# Altium footprint library Ctrl-FOC-Lite.PcbLib: 27 footprints (part 1 of 2)
Each footprint in its own frame and in the unit in brackets; x right, y up, seen from the top. Pads: shape width x height; smd on the part's side, far side on the other; paste and mask are expansions set on the pad; w line width, h text height; cw(c..) or ccw(c..) is an arc to the next point about the centre after c.
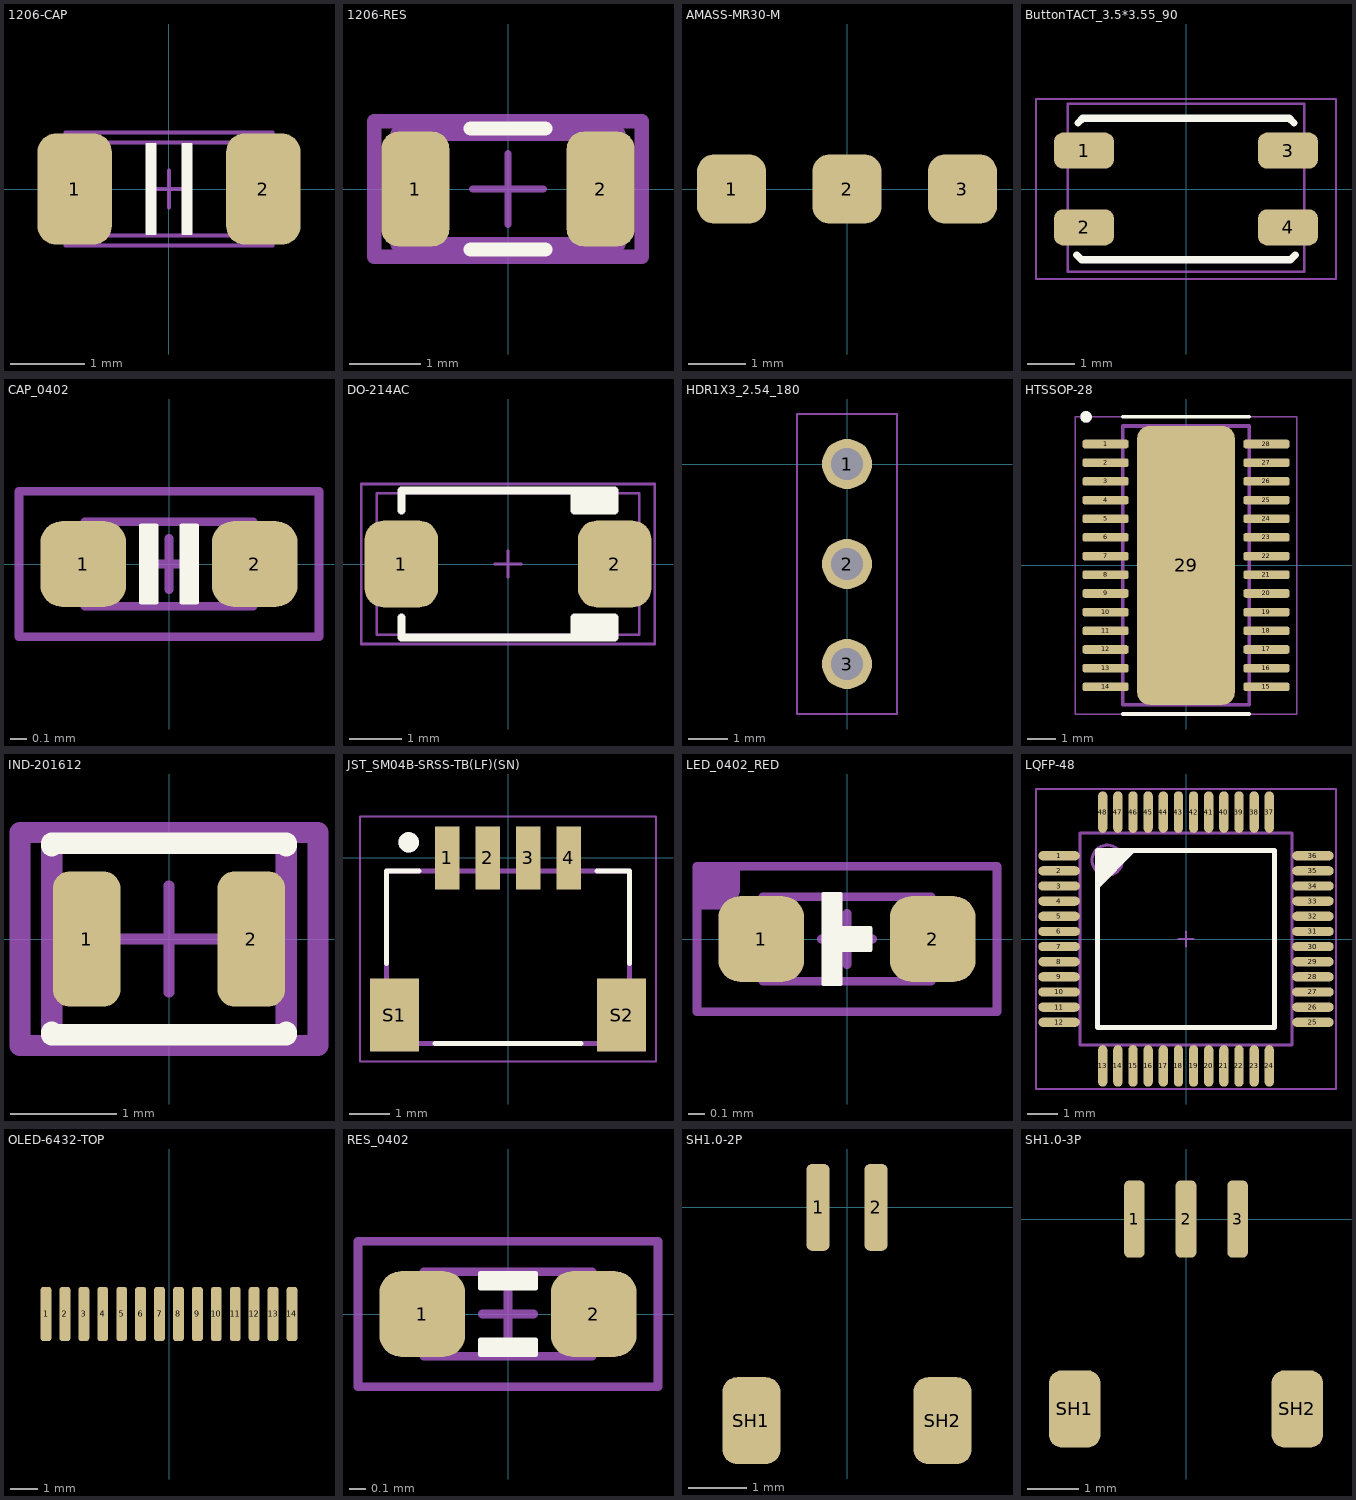
[diagram p0: the footprints below, top view; thin cyan lines are the x and y axes]

## 1206-CAP [mm]
height 1.2
pads (2):
  rrect50% 1x1.5 smd: 1(-1.27,0) 2(1.27,0)
Top Overlay:
  region: 0.305,-0.61 0.178,-0.61 0.178,0.61 0.305,0.61
  region: -0.305,0.61 -0.178,0.61 -0.178,-0.61 -0.305,-0.61
  lines w0.025: -0.305,-0.61 -0.305,0.61 -0.178,0.61 -0.178,-0.61 -0.305,-0.61 ; 0.178,-0.61 0.305,-0.61 0.305,0.61 0.178,0.61 0.178,-0.61
Mechanical 13:
  lines w0.051: -0.254,0 0.254,0 ; 0,-0.254 0,0.254 ; -1,-0.625 1,-0.625 1,0.625 -1,0.625 -1,-0.625
Mechanical 14:
  lines w0.051: -1.397,-0.762 1.397,-0.762 1.397,0.762 -1.397,0.762 -1.397,-0.762
3D body "(未保存).step": height 1.5, standoff 0, extent -1.5,-0.75 1.5,0.75

## 1206-RES [mm]
height 4.3
pads (2):
  rrect50% 0.956x1.61 smd paste+0 mask+0: 1(-1.301,0) 2(1.301,0)
Top Overlay:
  lines w0.2: -0.523,-0.85 0.523,-0.85 ; -0.523,0.85 0.523,0.85
Mechanical 10:
  lines w0.2: -1.879,-0.95 1.879,-0.95 1.879,0.95 -1.879,0.95 -1.879,-0.95
Mechanical 12:
  lines w0.2: -1.55,-0.775 1.55,-0.775 1.55,0.775 -1.55,0.775 -1.55,-0.775
Mechanical 15:
  lines w0.1: -0.5,0 0.5,0 ; 0,-0.5 0,0.5
  lines w0.2: -1.879,-0.95 1.879,-0.95 1.879,0.95 -1.879,0.95 -1.879,-0.95
3D body "Res_TE_CRGP1206F1K2_eec.step": height 0.65, standoff 0, extent -1.55,-0.775 1.55,0.775

## AMASS-MR30-M [mm]
pads (3):
  rrect50% 1.2x1.2 smd: 1(-2,0) 2(0,0) 3(2,0)

## ButtonTACT_3.5*3.55_90 [mil]
height 169.29
pads (4):
  rrect50% 50x30 smd: 1(-85,32) 2(-85,-32) 3(85,32) 4(85,-32)
Top Overlay:
  lines w6: -91,-55 -87,-59 87,-59 91,-55 ; -90,55 -85.98,59 86,59 90,55
Mechanical 13:
  lines w2: -98.43,-68.9 -98.43,71 98.43,71 98.43,-68.9 -98.43,-68.9
Mechanical 14:
  lines w2: -125,-75 -125,75 125,75 125,-75 -125,-75
3D body "User Library-KMS231G.STEP": height 55.91, standoff -0.77, extent -90.1,-54.76 91,85

## CAP_0402 [mil]
height 21.65
pads (2):
  rrect50% 20x20 smd: 1(-20,0) 2(20,0)
Top Overlay:
  region: -6.5,9 -3,9 -3,-9 -6.5,-9
  region: 6.5,-9 3,-9 3,9 6.5,9
  lines w1: -6.5,-9 -3,-9 -3,9 -6.5,9 -6.5,-9 ; 3,-9 3,9 6.5,9 6.5,-9 3,-9
Mechanical 13:
  lines w2: -6,0 6,0 ; 0,-6 0,6 ; -19.69,-9.84 -19.69,9.84 19.68,9.84 19.68,-9.84 -19.69,-9.84
Mechanical 14:
  lines w2: -35,-17 -35,17 35,17 35,-17 -35,-17
3D body "CAPC1005X05L.step": height 19.68, standoff 0, extent -19.68,-9.84 19.69,9.85

## DO-214AC [mil] "SMA"
height 169.29
pads (2):
  rrect50% 55x65 smd: 1(-80,0) 2(80,0)
Top Overlay:
  region: 50,40 50,55 80,55 80,40
  region: 50,-40 50,-55 80,-55 80,-40
  lines w6: -80,-40 -80,-55 80,-55 80,-40 50,-40 50,-55 ; -80,40 -80,55 80,55 80,40 50,40 50,55
Mechanical 13:
  lines w2: -10.01,-0.01 9.99,-0.01 ; -0.01,-10.01 -0.01,9.99 ; -98.44,-53.16 98.41,-53.16 98.41,53.14 -98.44,53.14 -98.44,-53.16
Mechanical 14:
  lines w2: -110,-60 -110,60 110,60 110,-60 -110,-60
3D body "User Library-DO-214AC_SMA.STEP": height 84.69, standoff -1.97, extent -98.44,-53.16 98.41,53.14

## HDR1X3_2.54_180 [mil]
height 169.29
pads (3):
  round 50 hole 32: 1(0,0) 2(0,-100) 3(0,-200)
Mechanical 13:
  lines w2: -50,-250 50,-250 50,50 -50,50 -50,-250
Mechanical 14:
  lines w2: -50,-250 50,-250 50,50 -50,50 -50,-250
3D body "pin_header_aw140-eg-g03d.stp": height 322.83, standoff -118.11, extent -49.18,-250 49.18,50

## HTSSOP-28 [mm]
height 4.3
pads (29):
  rrect50% 1.6x0.3 smd paste-2 mask+0: 1(-2.8,4.225) 2(-2.8,3.575) 3(-2.8,2.925) 4(-2.8,2.275) 5(-2.8,1.625) 6(-2.8,0.975) 7(-2.8,0.325) 8(-2.8,-0.325) 9(-2.8,-0.975) 10(-2.8,-1.625) 11(-2.8,-2.275) 12(-2.8,-2.925) 13(-2.8,-3.575) 14(-2.8,-4.225) 15(2.8,-4.225) 16(2.8,-3.575) 17(2.8,-2.925) 18(2.8,-2.275) 19(2.8,-1.625) 20(2.8,-0.975) 21(2.8,-0.325) 22(2.8,0.325) 23(2.8,0.975) 24(2.8,1.625) 25(2.8,2.275) 26(2.8,2.925) 27(2.8,3.575) 28(2.8,4.225)
  rrect25% 3.4x9.7 smd paste-6 mask+0: 29(0,0)
Top Overlay:
  circle w0.2: c-3.478,5.17 r0.1
  lines w0.127: -2.2,-5.17 2.2,-5.17 ; -2.2,5.17 2.2,5.17
Top Paste:
  region: 3.575,-4.35 2.025,-4.35 2.025,-4.1 3.575,-4.1
  region: 3.575,-3.7 2.025,-3.7 2.025,-3.45 3.575,-3.45
  region: 3.575,-3.05 2.025,-3.05 2.025,-2.8 3.575,-2.8
  region: 3.575,-2.4 2.025,-2.4 2.025,-2.15 3.575,-2.15
  region: 3.575,-1.75 2.025,-1.75 2.025,-1.5 3.575,-1.5
  region: 3.575,-1.1 2.025,-1.1 2.025,-0.85 3.575,-0.85
  region: 3.575,-0.45 2.025,-0.45 2.025,-0.2 3.575,-0.2
  region: -2.025,-4.35 -3.575,-4.35 -3.575,-4.1 -2.025,-4.1
  region: -2.025,-3.7 -3.575,-3.7 -3.575,-3.45 -2.025,-3.45
  region: -2.025,-3.05 -3.575,-3.05 -3.575,-2.8 -2.025,-2.8
  region: -2.025,-2.4 -3.575,-2.4 -3.575,-2.15 -2.025,-2.15
  region: -2.025,-1.75 -3.575,-1.75 -3.575,-1.5 -2.025,-1.5
  region: -2.025,-1.1 -3.575,-1.1 -3.575,-0.85 -2.025,-0.85
  region: -2.025,-0.45 -3.575,-0.45 -3.575,-0.2 -2.025,-0.2
  region: 3.575,0.2 2.025,0.2 2.025,0.45 3.575,0.45
  region: -2.025,0.2 -3.575,0.2 -3.575,0.45 -2.025,0.45
  region: 3.575,0.85 2.025,0.85 2.025,1.1 3.575,1.1
  region: -2.025,0.85 -3.575,0.85 -3.575,1.1 -2.025,1.1
  region: 3.575,1.5 2.025,1.5 2.025,1.75 3.575,1.75
  region: -2.025,1.5 -3.575,1.5 -3.575,1.75 -2.025,1.75
  region: 3.575,2.15 2.025,2.15 2.025,2.4 3.575,2.4
  region: -2.025,2.15 -3.575,2.15 -3.575,2.4 -2.025,2.4
  region: 3.575,2.8 2.025,2.8 2.025,3.05 3.575,3.05
  region: -2.025,2.8 -3.575,2.8 -3.575,3.05 -2.025,3.05
  region: 3.575,3.45 2.025,3.45 2.025,3.7 3.575,3.7
  region: -2.025,3.45 -3.575,3.45 -3.575,3.7 -2.025,3.7
  region: 3.575,4.1 2.025,4.1 2.025,4.35 3.575,4.35
  region: -2.025,4.1 -3.575,4.1 -3.575,4.35 -2.025,4.35
  region: 1.2,-3.23 -1.2,-3.23 -1.2,3.23 1.2,3.23
Top Solder:
  region: 3.67,-4.445 1.93,-4.445 1.93,-4.005 3.67,-4.005
  region: 3.67,-3.795 1.93,-3.795 1.93,-3.355 3.67,-3.355
  region: 3.67,-3.145 1.93,-3.145 1.93,-2.705 3.67,-2.705
  region: 3.67,-2.495 1.93,-2.495 1.93,-2.055 3.67,-2.055
  region: 3.67,-1.845 1.93,-1.845 1.93,-1.405 3.67,-1.405
  region: 3.67,-1.195 1.93,-1.195 1.93,-0.755 3.67,-0.755
  region: 3.67,-0.545 1.93,-0.545 1.93,-0.105 3.67,-0.105
  region: -1.93,-4.445 -3.67,-4.445 -3.67,-4.005 -1.93,-4.005
  region: -1.93,-3.795 -3.67,-3.795 -3.67,-3.355 -1.93,-3.355
  region: -1.93,-3.145 -3.67,-3.145 -3.67,-2.705 -1.93,-2.705
  region: -1.93,-2.495 -3.67,-2.495 -3.67,-2.055 -1.93,-2.055
  region: -1.93,-1.845 -3.67,-1.845 -3.67,-1.405 -1.93,-1.405
  region: -1.93,-1.195 -3.67,-1.195 -3.67,-0.755 -1.93,-0.755
  region: -1.93,-0.545 -3.67,-0.545 -3.67,-0.105 -1.93,-0.105
  region: 3.67,0.105 1.93,0.105 1.93,0.545 3.67,0.545
  region: -1.93,0.105 -3.67,0.105 -3.67,0.545 -1.93,0.545
  region: 3.67,0.755 1.93,0.755 1.93,1.195 3.67,1.195
  region: -1.93,0.755 -3.67,0.755 -3.67,1.195 -1.93,1.195
  region: 3.67,1.405 1.93,1.405 1.93,1.845 3.67,1.845
  region: -1.93,1.405 -3.67,1.405 -3.67,1.845 -1.93,1.845
  region: 3.67,2.055 1.93,2.055 1.93,2.495 3.67,2.495
  region: -1.93,2.055 -3.67,2.055 -3.67,2.495 -1.93,2.495
  region: 3.67,2.705 1.93,2.705 1.93,3.145 3.67,3.145
  region: -1.93,2.705 -3.67,2.705 -3.67,3.145 -1.93,3.145
  region: 3.67,3.355 1.93,3.355 1.93,3.795 3.67,3.795
  region: -1.93,3.355 -3.67,3.355 -3.67,3.795 -1.93,3.795
  region: 3.67,4.005 1.93,4.005 1.93,4.445 3.67,4.445
  region: -1.93,4.005 -3.67,4.005 -3.67,4.445 -1.93,4.445
  region: 1.2,-3.23 -1.2,-3.23 -1.2,3.23 1.2,3.23
Mechanical 13:
  circle w0.2: c-3.478,5.17 r0.1
  lines w0.127: -2.2,-4.85 -2.2,4.85 2.2,4.85 2.2,-4.85 -2.2,-4.85
Mechanical 15:
  lines w0.05: -3.85,-5.17 -3.85,5.17 3.85,5.17 3.85,-5.17 -3.85,-5.17
3D body "step_temp.STEP": height 1.2, standoff 0, extent -3.2,-4.85 3.2,4.85

## IND-201612 [mm]
height 4.3
pads (2):
  rrect50% 0.635x1.27 smd paste+0 mask+0: 1(-0.774,0) 2(0.774,0)
Top Overlay:
  lines w0.2: -1.1,-0.875 -1.1,-0.9 1.1,-0.9 1.1,-0.875 ; -1.1,0.875 -1.1,0.9 1.1,0.9 1.1,0.875
Mechanical 10:
  lines w0.2: -1.4,-1 -1.4,1 1.4,1 1.4,-1 -1.4,-1
Mechanical 12:
  lines w0.2: -1.1,-0.9 -1.1,0.9 1.1,0.9 1.1,-0.9 -1.1,-0.9
Mechanical 15:
  lines w0.1: -0.5,0 0.5,0 ; 0,-0.5 0,0.5
  lines w0.2: -1.4,-1 -1.4,1 1.4,1 1.4,-1 -1.4,-1
3D body "Ind_Murata.step": height 0.95, standoff 0, extent -1,-0.8 1,0.8

## JST_SM04B-SRSS-TB(LF)(SN) [mm]
pads (6):
  rect 0.6x1.55 smd: 1(-1.5,0) 2(-0.5,0) 3(0.5,0) 4(1.5,0)
  rect 1.2x1.8 smd: S1(-2.8,-3.875) S2(2.8,-3.875)
Top Overlay:
  circle w0.3: c-2.45,0.385 r0.1
  lines w0.127: -3,-2.6 -3,-0.325 -2.2,-0.325 ; -1.8,-4.575 1.8,-4.575 ; 2.2,-0.325 3,-0.325 3,-2.6
Mechanical 13:
  circle w0.3: c-2.45,0.385 r0.1
  lines w0.127: -3,-4.575 3,-4.575 3,-0.325 -3,-0.325 -3,-4.575
Mechanical 15:
  lines w0.05: -3.65,-5.025 3.65,-5.025 3.65,1.025 -3.65,1.025 -3.65,-5.025
3D body "SM04B-SRSS-TB(LF)(SN)--3DModel-STEP-56544.STEP": height 3.25, standoff 0.3, extent -3,-4.784 3,0.166

## LED_0402_RED [mil]
height 31.5
pads (2):
  rrect50% 20x20 smd: 1(-20,0) 2(20,0)
Top Overlay:
  region: -5.5,10.5 -1.5,10.5 -1.5,2.5 5.5,2.5 5.5,-2.5 -1.5,-2.5 -1.5,-10.5 -5.5,-10.5
  lines w1: -5.5,-10.5 -1.5,-10.5 -1.5,-2.5 5.5,-2.5 5.5,2.5 -1.5,2.5 -1.5,10.5 -5.5,10.5 -5.5,-10.5
Mechanical 13:
  lines w2: -6,0 6,0 ; 0,-6 0,6 ; -19.69,-9.84 -19.69,9.84 19.68,9.84 19.68,-9.84 -19.69,-9.84
Mechanical 14:
  region: -35,17 -25,17 -25,12 -25,11.01 -25.76,9.17 -27.17,7.76 -29.01,7 -30,7 -35,7
  lines w2: -35,-17 -35,17 35,17 35,-17 -35,-17
  text ".Designator" at -15,-10 h40
3D body "User Library-led_0402LED0402 red_.STEP": height 17.72, standoff 0, extent -19.88,-9.84 19.89,9.84

## LQFP-48 [mil]
height 62.99
pads (48):
  oval 54x12 smd: 1(-165,108.27) 2(-165,88.58) 3(-165,68.9) 4(-165,49.21) 5(-165,29.53) 6(-165,9.84) 7(-165,-9.84) 8(-165,-29.53) 9(-165,-49.21) 10(-165,-68.9) 11(-165,-88.58) 12(-165,-108.27) 25(165,-108.27) 26(165,-88.58) 27(165,-68.9) 28(165,-49.21) 29(165,-29.53) 30(165,-9.84) 31(165,9.84) 32(165,29.53) 33(165,49.21) 34(165,68.9) 35(165,88.58) 36(165,108.27)
  oval 12x54 smd: 13(-108.27,-165) 14(-88.58,-165) 15(-68.9,-165) 16(-49.21,-165) 17(-29.53,-165) 18(-9.84,-165) 19(9.84,-165) 20(29.53,-165) 21(49.21,-165) 22(68.9,-165) 23(88.58,-165) 24(108.27,-165) 37(108.27,165) 38(88.58,165) 39(68.9,165) 40(49.21,165) 41(29.53,165) 42(9.84,165) 43(-9.84,165) 44(-29.53,165) 45(-49.21,165) 46(-68.9,165) 47(-88.58,165) 48(-108.27,165)
Top Overlay:
  region: -115,115 -65,115 -115,65
  lines w6: -115,-115 -115,115 115,115 115,-115 -115,-115
Mechanical 13:
  circle w3.94: c-102.36,102.36 r19.68
  lines w2: -10,0 10,0 ; 0,-10 0,10
  lines w3.94: -137.8,-137.8 -137.8,137.8 137.8,137.8 137.8,-137.8 -137.8,-137.8
Mechanical 14:
  lines w2: -195,-195 195,-195 195,195 -195,195 -195,-195
3D body "SW3dPS-Quad50M48.STEP": height 61.42, standoff 0, extent -177.16,-177.16 177.17,177.17

## OLED-6432-TOP [mm]
pads (14):
  rrect50% 0.4x2 smd: 1(-4.56,7.195) 2(-3.86,7.195) 3(-3.16,7.195) 4(-2.46,7.195) 5(-1.76,7.195) 6(-1.06,7.195) 7(-0.36,7.195) 8(0.34,7.195) 9(1.04,7.195) 10(1.74,7.195) 11(2.44,7.195) 12(3.14,7.195) 13(3.84,7.195) 14(4.54,7.195)
3D body "312.stp": height 3.43, standoff -0.02, extent -7.441,-0.277 7.441,12.096

## RES_0402 [mil]
height 13.78
pads (2):
  rrect50% 20x20 smd: 1(-20,0) 2(20,0)
Top Overlay:
  region: -6.5,9.5 6.5,9.5 6.5,6 -6.5,6
  region: 6.5,-9.5 -6.5,-9.5 -6.5,-6 6.5,-6
  lines w1: -6.5,-9.5 -6.5,-6 6.5,-6 6.5,-9.5 -6.5,-9.5 ; -6.5,6 6.5,6 6.5,9.5 -6.5,9.5 -6.5,6
Mechanical 13:
  lines w2: -6,0 6,0 ; 0,-6 0,6 ; -19.69,-9.84 19.68,-9.84 19.68,9.84 -19.69,9.84 -19.69,-9.84
Mechanical 14:
  lines w2: -35,-17 -35,17 35,17 35,-17 -35,-17
3D body "RESC1005X03L.step": height 13.78, standoff 0, extent -19.68,-9.84 19.69,9.85

## SH1.0-2P [mm]
height 4.3
pads (4):
  rrect50% 0.4x1.5 smd: 1(-0.5,0) 2(0.5,0)
  rrect50% 1x1.5 smd: SH1(-1.651,-3.683) SH2(1.651,-3.683)
3D body "2.step": height 3.06, standoff -0.08, extent -2,-4.416 2,0.544

## SH1.0-3P [mm]
height 4.3
pads (5):
  rrect50% 0.4x1.5 smd: 1(-1,0) 2(0,0) 3(1,0)
  rrect50% 1x1.5 smd: SH1(-2.159,-3.683) SH2(2.159,-3.683)
3D body "3.step": height 3.06, standoff -0.08, extent -2.5,-4.416 2.5,0.544